# Altium schematic symbol library RES_220_805.SchLib: 1 symbol
Pins are listed as number, name and electrical type; pins without a type are passive.

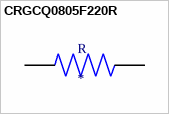
[diagram p0: symbol CRGCQ0805F220R]

## CRGCQ0805F220R
designator R
Fixed Resistor CRGCQ 0805 220R 1%; MF: TE Connectivity; MP: CRGCQ0805F220R; SnapEDA_Link: https://www.snapeda.com/parts/CRGCQ0805F220R/TE%20Connectivity%20Passive%20Product/view-part/3188284/?ref=snap; Mouser-Purchase-URL: https://snapeda.com/shop?store=Mouser&id=3188284; Digi-Key_Part_Number: A129741CT-ND; DigiKey-Purchase-URL: https://snapeda.com/shop?store=DigiKey&id=3188284; Package: 2012 TE Connectivity; Value: *
footprint RESC2012X65N
pins: 1, 2